# EAGLE library part BNO080 (library BNO080)
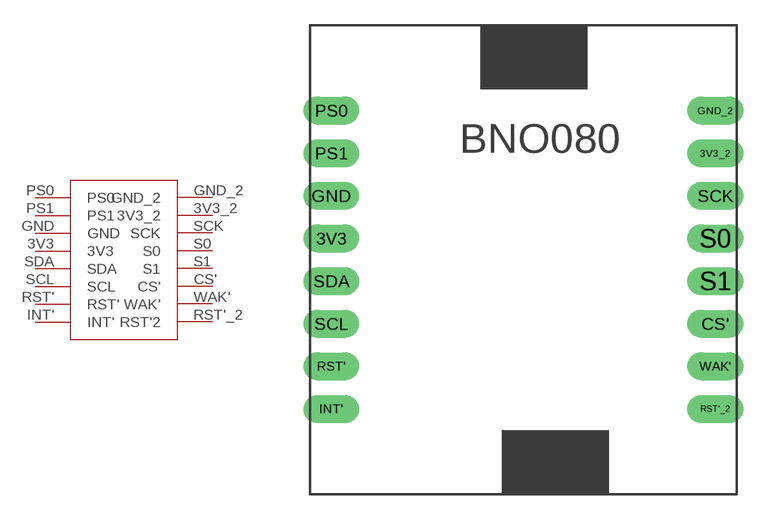
[diagram p0: symbol with the pads of BNO080; footprint BNO080]

Designator prefix -

## BNO080  [BNO080]
3V3  3V3
3V3_2  3V3_2
CS'  CS'
GND  GND
GND_2  GND_2
INT'  INT'
PS0  PS0
PS1  PS1
RST'  RST'
RST'_2  RST'2
S0  S0
S1  S1
SCK  SCK
SCL  SCL
SDA  SDA
WAK'  WAK'

## Footprint BNO080 (pad centres in mm)
drill 1 pad 1.676 long: 3V3 -10.16,-6.35; 3V3_2 12.7,-1.27; CS' 12.7,-11.43; GND -10.16,-3.81; GND_2 12.7,1.27; INT' -10.16,-16.51; PS0 -10.16,1.27; PS1 -10.16,-1.27; RST' -10.16,-13.97; RST'_2 12.7,-16.51; S0 12.7,-6.35; S1 12.7,-8.89; SCK 12.7,-3.81; SCL -10.16,-11.43; SDA -10.16,-8.89; WAK' 12.7,-13.97